# Altium schematic symbol library CDRH127-4R7NC.SchLib: 1 symbol
Pins are listed as number, name and electrical type; pins without a type are passive.

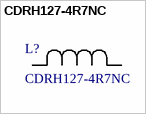
[diagram p0: symbol CDRH127-4R7NC]

## CDRH127-4R7NC
designator L?
Description; Manufacturer_Name: Sumida; Copyright: Copyright (C) 2025 Ultra Librarian. All rights reserved.; Manufacturer_Part_Number: CDRH127-4R7NC
footprint IND_CDRH127-4R7NC_SUM
pins: 1, 2